# EAGLE library part 74LVC74 (library yapo)
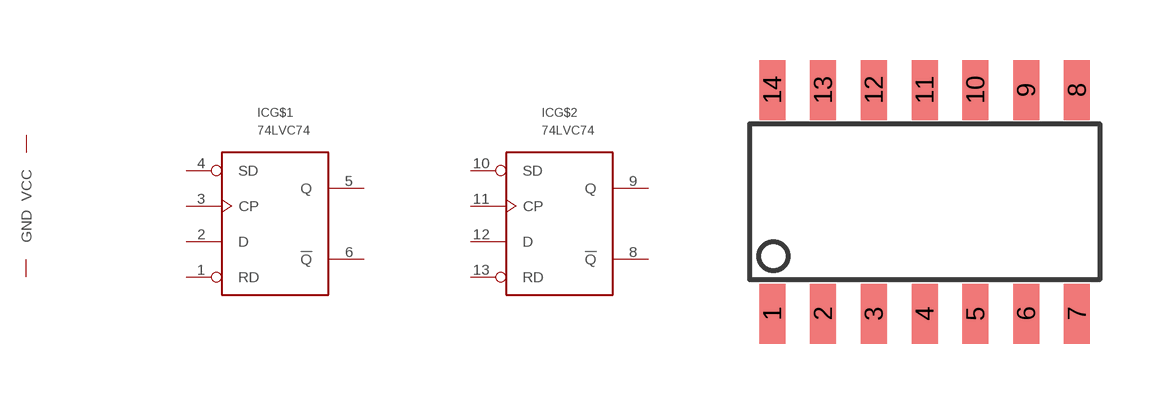
[diagram p21: symbol with the pads of SOIC14_NARROW; footprint SOIC14_NARROW]

Designator prefix IC; gates G$1=7474 G$2=7474 G$3=74XX_VCC_GND

## 74LVC74  [SOIC14_NARROW]
1  G$1:RD
2  G$1:D
3  G$1:CP
4  G$1:SD
5  G$1:Q
6  G$1:!Q!
7  G$3:GND
8  G$2:!Q!
9  G$2:Q
10  G$2:SD
11  G$2:CP
12  G$2:D
13  G$2:RD
14  G$3:VCC

## Footprint SOIC14_NARROW (pad centres in mm)
smd 0.65 x 1.5: 1 -3.81,-2.8; 2 -2.54,-2.8; 3 -1.27,-2.8; 4 0,-2.8; 5 1.27,-2.8; 6 2.54,-2.8; 7 3.81,-2.8; 8 3.81,2.8; 9 2.54,2.8; 10 1.27,2.8; 11 0,2.8; 12 -1.27,2.8; 13 -2.54,2.8; 14 -3.81,2.8